# Altium footprint library advsensor.PcbLib: 13 footprints
Each footprint in its own frame and in the unit in brackets; x right, y up, seen from the top. Pads: shape width x height; smd on the part's side, far side on the other; paste and mask are expansions set on the pad; w line width, h text height; cw(c..) or ccw(c..) is an arc to the next point about the centre after c.
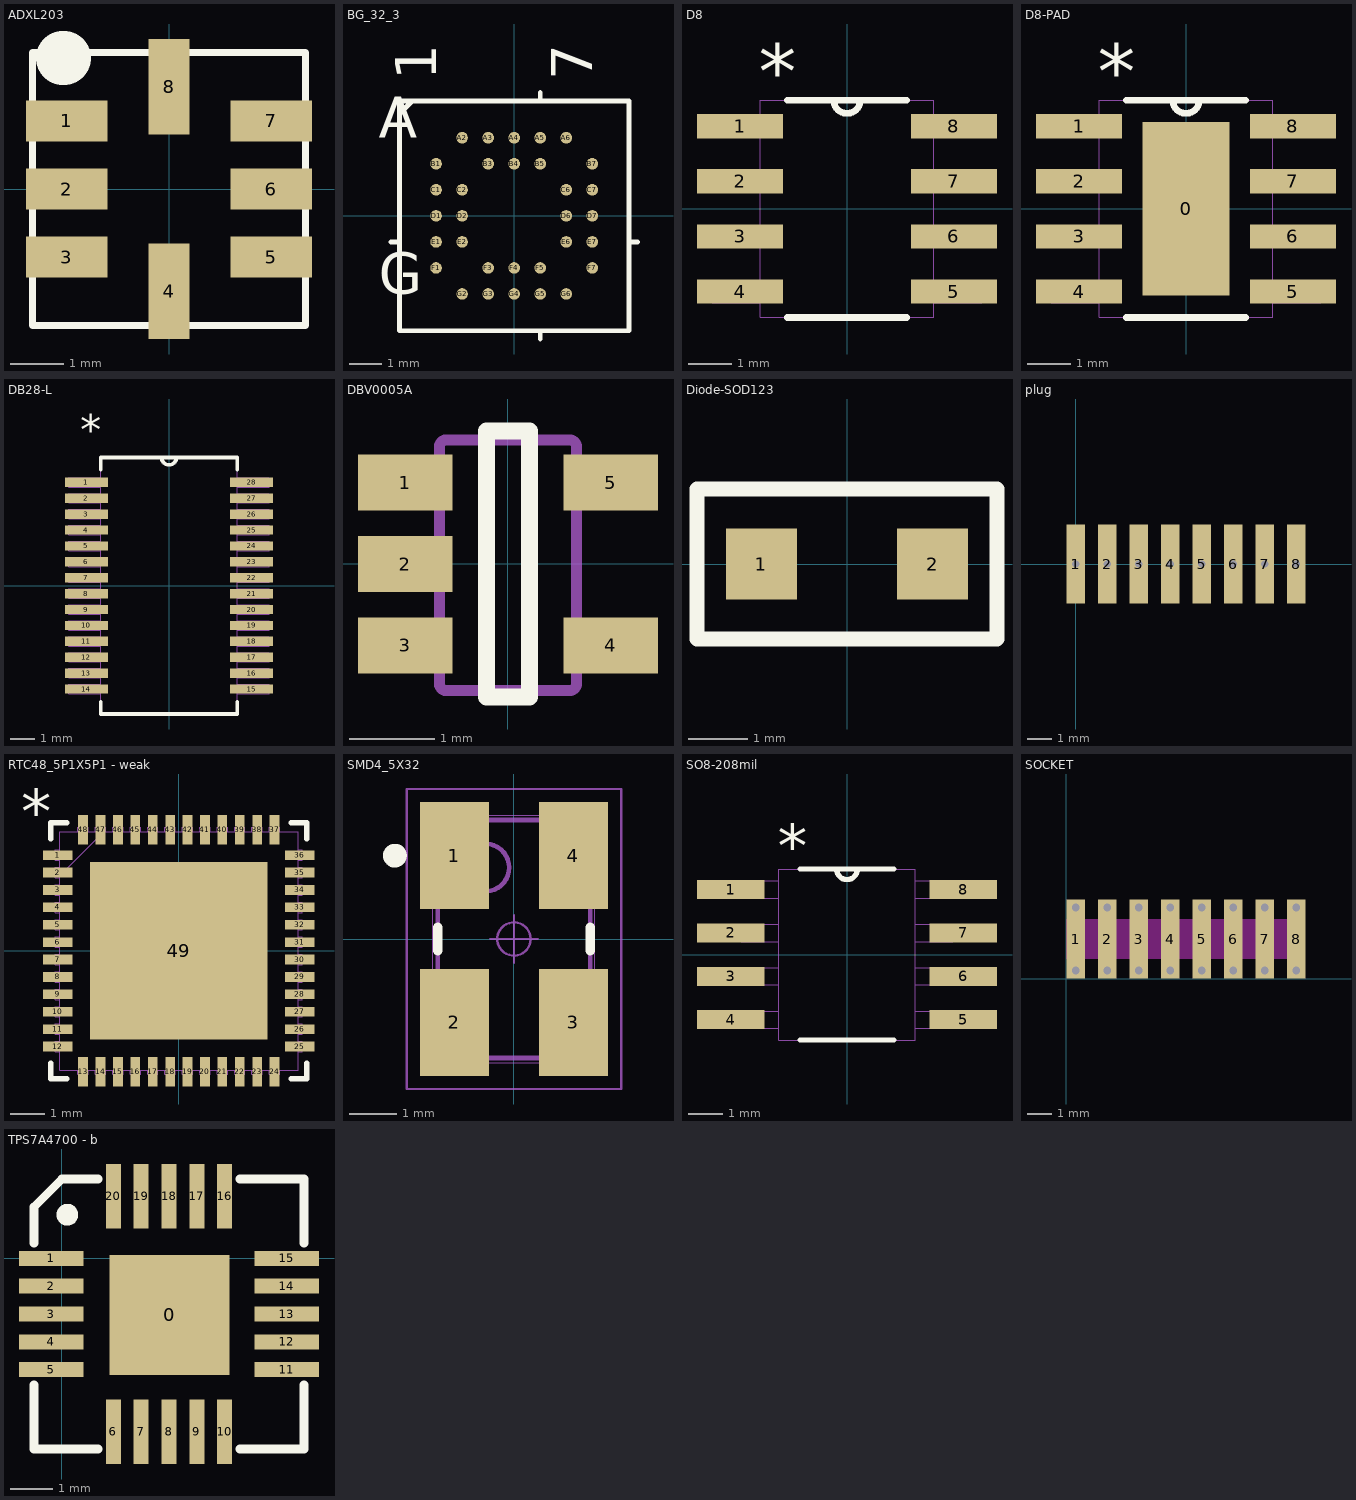
[diagram p0: the footprints below, top view; thin cyan lines are the x and y axes]

## ADXL203 [mil]
pads (8):
  rect 60x30 smd: 1(-75,50) 2(-75,0) 3(-75,-50) 5(75,-50) 6(75,0) 7(75,50)
  rect 30x70 smd: 4(0,-75) 8(0,75)
Top Overlay:
  lines w5: -100,-100 -100,100 100,100 100,-100 -100,-100
  lines w39.37: -78,96 -77,96
3D body: height 80, standoff 0, extent -100,-100 100,100

## BG_32_3 [mil]
pads (32):
  round 14 smd: A2(-62.99,94.49) A3(-31.5,94.49) A4(0,94.49) A5(31.5,94.49) A6(62.99,94.49) B1(-94.49,62.99) B3(-31.5,62.99) B4(0,62.99) B5(31.5,62.99) B7(94.49,62.99) C1(-94.49,31.5) C2(-62.99,31.5) C6(62.99,31.5) C7(94.49,31.5) D1(-94.49,0) D2(-62.99,0) D6(62.99,0) D7(94.49,0) E1(-94.49,-31.5) E2(-62.99,-31.5) E6(62.99,-31.5) E7(94.49,-31.5) F1(-94.49,-62.99) F3(-31.5,-62.99) F4(0,-62.99) F5(31.5,-62.99) F7(94.49,-62.99) G2(-62.99,-94.49) G3(-31.5,-94.49) G4(0,-94.49) G5(31.5,-94.49) G6(62.99,-94.49)
Top Overlay:
  lines w6: -149,-31.5 -139,-31.5 ; -139,123.25 -123.25,139 ; 31.5,-149 31.5,-139 ; 31.5,139 31.5,149 ; 139,-31.5 149,-31.5 ; -139,-139 -139,139 139,139 139,-139 -139,-139
  text "7" at 94.49,164 h50
  text "1" at -94.49,164 h50
  text "G" at -164,-94.49 h50
  text "A" at -164,94.49 h50
Mechanical 1:
  lines w0: -139,123.25 -123.25,139 ; -139,-139 -139,139 139,139 139,-139 -139,-139
  text "7" at 94.49,164 h50
  text "1" at -94.49,164 h50
  text "G" at -164,-94.49 h50
  text "A" at -164,94.49 h50
3D body: height 137.8, standoff 15.75, extent -139,-139 139,139

## D8 [mil]
pads (8):
  rect 78x22 smd: 1(-97,75) 2(-97,25) 3(-97,-25) 4(-97,-75) 5(97,-75) 6(97,-25) 7(97,25) 8(97,75)
Top Overlay:
  lines w6: -54.08,-98.5 54.08,-98.5 ; -54.08,98.5 54.08,98.5 ; -12,98.5 ccw(c0,98.5) 12,98.5
  text "*" at -80,100 h50
Mechanical 1:
  lines w0: -12,98.5 ccw(c0,98.5) 12,98.5 ; -122,-85 -78.5,-85 -78.5,-65 -122,-65 -122,-85 ; -122,-35 -78.5,-35 -78.5,-15 -122,-15 -122,-35 ; -122,15 -78.5,15 -78.5,35 -122,35 -122,15 ; -122,65 -78.5,65 -78.5,85 -122,85 -122,65 ; -78.5,-98.5 -78.5,98.5 78.5,98.5 78.5,-98.5 -78.5,-98.5 ; 78.5,-85 122,-85 122,-65 78.5,-65 78.5,-85 ; 78.5,-35 122,-35 122,-15 78.5,-15 78.5,-35 ; 78.5,15 122,15 122,35 78.5,35 78.5,15 ; 78.5,65 122,65 122,85 78.5,85 78.5,65
3D body: height 63.98, standoff 0, extent -118.12,-96.45 118.1,96.46

## D8-PAD [mil]
pads (9):
  rect 78.74x157.48 smd: 0(0,0)
  rect 78x22 smd: 1(-97,75) 2(-97,25) 3(-97,-25) 4(-97,-75) 5(97,-75) 6(97,-25) 7(97,25) 8(97,75)
Top Overlay:
  lines w6: -54.08,-98.5 54.08,-98.5 ; -54.08,98.5 54.08,98.5 ; -12,98.5 ccw(c0,98.5) 12,98.5
  text "*" at -80,100 h50
Mechanical 1:
  lines w0: -12,98.5 ccw(c0,98.5) 12,98.5 ; -122,-85 -122,-65 -78.5,-65 -78.5,-85 -122,-85 ; -122,-35 -122,-15 -78.5,-15 -78.5,-35 -122,-35 ; -122,15 -122,35 -78.5,35 -78.5,15 -122,15 ; -122,65 -122,85 -78.5,85 -78.5,65 -122,65 ; -78.5,-98.5 78.5,-98.5 78.5,98.5 -78.5,98.5 -78.5,-98.5 ; 78.5,-85 78.5,-65 122,-65 122,-85 78.5,-85 ; 78.5,-35 78.5,-15 122,-15 122,-35 78.5,-35 ; 78.5,15 78.5,35 122,35 122,15 78.5,15 ; 78.5,65 78.5,85 122,85 122,65 78.5,65
3D body: height 63.98, standoff 0, extent -118.12,-96.45 118.1,96.46

## DB28-L [mil]
pads (28):
  rect 69x15 smd: 1(-133,166.34) 2(-133,140.75) 3(-133,115.16) 4(-133,89.57) 5(-133,63.98) 6(-133,38.39) 7(-133,12.8) 8(-133,-12.8) 9(-133,-38.39) 10(-133,-63.98) 11(-133,-89.57) 12(-133,-115.16) 13(-133,-140.75) 14(-133,-166.34) 15(133,-166.34) 16(133,-140.75) 17(133,-115.16) 18(133,-89.57) 19(133,-63.98) 20(133,-38.39) 21(133,-12.8) 22(133,12.8) 23(133,38.39) 24(133,63.98) 25(133,89.57) 26(133,115.16) 27(133,140.75) 28(133,166.34)
Top Overlay:
  lines w6: -110,-186.94 -110,-206.5 110,-206.5 110,-186.94 ; -110,186.94 -110,206.5 110,206.5 110,186.94 ; -12,206.5 ccw(c0,206.5) 12,206.5
  text "*" at -143,226.34 h50
Mechanical 1:
  lines w0: -12,206.5 ccw(c0,206.5) 12,206.5 ; -161.5,-173.84 -110,-173.84 -110,-158.84 -161.5,-158.84 -161.5,-173.84 ; -161.5,-148.25 -110,-148.25 -110,-133.25 -161.5,-133.25 -161.5,-148.25 ; -161.5,-122.66 -110,-122.66 -110,-107.66 -161.5,-107.66 -161.5,-122.66 ; -161.5,-97.07 -110,-97.07 -110,-82.07 -161.5,-82.07 -161.5,-97.07 ; -161.5,-71.48 -110,-71.48 -110,-56.48 -161.5,-56.48 -161.5,-71.48 ; -161.5,-45.89 -110,-45.89 -110,-30.89 -161.5,-30.89 -161.5,-45.89 ; -161.5,-20.3 -110,-20.3 -110,-5.3 -161.5,-5.3 -161.5,-20.3 ; -161.5,5.3 -110,5.3 -110,20.3 -161.5,20.3 -161.5,5.3 ; -161.5,30.89 -110,30.89 -110,45.89 -161.5,45.89 -161.5,30.89 ; -161.5,56.48 -110,56.48 -110,71.48 -161.5,71.48 -161.5,56.48 ; -161.5,82.07 -110,82.07 -110,97.07 -161.5,97.07 -161.5,82.07 ; -161.5,107.66 -110,107.66 -110,122.66 -161.5,122.66 -161.5,107.66 ; -161.5,133.25 -110,133.25 -110,148.25 -161.5,148.25 -161.5,133.25 ; -161.5,158.84 -110,158.84 -110,173.84 -161.5,173.84 -161.5,158.84 ; -110,-206.5 -110,206.5 110,206.5 110,-206.5 -110,-206.5 ; 110,-173.84 161.5,-173.84 161.5,-158.84 110,-158.84 110,-173.84 ; 110,-148.25 161.5,-148.25 161.5,-133.25 110,-133.25 110,-148.25 ; 110,-122.66 161.5,-122.66 161.5,-107.66 110,-107.66 110,-122.66 ; 110,-97.07 161.5,-97.07 161.5,-82.07 110,-82.07 110,-97.07 ; 110,-71.48 161.5,-71.48 161.5,-56.48 110,-56.48 110,-71.48 ; 110,-45.89 161.5,-45.89 161.5,-30.89 110,-30.89 110,-45.89 ; 110,-20.3 161.5,-20.3 161.5,-5.3 110,-5.3 110,-20.3 ; 110,5.3 161.5,5.3 161.5,20.3 110,20.3 110,5.3 ; 110,30.89 161.5,30.89 161.5,45.89 110,45.89 110,30.89 ; 110,56.48 161.5,56.48 161.5,71.48 110,71.48 110,56.48 ; 110,82.07 161.5,82.07 161.5,97.07 110,97.07 110,82.07 ; 110,107.66 161.5,107.66 161.5,122.66 110,122.66 110,107.66 ; 110,133.25 161.5,133.25 161.5,148.25 110,148.25 110,133.25 ; 110,158.84 161.5,158.84 161.5,173.84 110,173.84 110,158.84
  text "*" at -143,226.34 h50

## DBV0005A [mm]
pads (5):
  rect 1.1x0.65 smd paste-0.102 mask+0.051: 1(-1.2,0.95) 2(-1.2,0) 3(-1.2,-0.95) 4(1.2,-0.95) 5(1.2,0.95)
Top Overlay:
  lines w0.2: -0.25,-1.55 -0.25,1.55 0.25,1.55 0.25,-1.55 -0.25,-1.55
Mechanical 1:
  lines w0.127: -0.801,1.371 cw(c-0.725,1.37) -0.725,1.446 ; -0.801,1.37 -0.801,1.371 ; -0.801,1.37 -0.801,-1.399 -0.801,-1.4 ccw(c-0.725,-1.399) -0.725,-1.475 ; -0.725,-1.475 0.723,-1.475 0.724,-1.475 ccw(c0.723,-1.399) 0.799,-1.4 0.799,-1.399 0.799,1.37 ; -0.725,-1.475 -0.725,-1.475 ; -0.725,1.446 -0.725,1.446 ; -0.725,1.446 0.723,1.446 0.724,1.446 cw(c0.723,1.37) 0.799,1.371 ; 0.799,1.37 0.799,1.371 ; -1.423,-1.167 -1.423,-0.767 -1.199,-0.767 -1.105,-0.767 -1.088,-0.767 -0.835,-0.767 -0.801,-0.767 -0.801,-1.167 -0.835,-1.167 -1.088,-1.167 -1.105,-1.167 -1.199,-1.167 -1.423,-1.167 ; -1.423,-0.215 -1.423,0.186 -1.199,0.186 -1.105,0.186 -1.088,0.186 -0.835,0.186 -0.801,0.186 -0.801,-0.215 -0.835,-0.215 -1.088,-0.215 -1.105,-0.215 -1.199,-0.215 -1.423,-0.215 ; -1.423,0.738 -1.423,1.138 -1.199,1.138 -1.105,1.138 -1.088,1.138 -0.835,1.138 -0.801,1.138 -0.801,0.738 -0.835,0.738 -1.088,0.738 -1.105,0.738 -1.199,0.738 -1.423,0.738 ; 0.799,-1.167 0.834,-1.167 1.087,-1.167 1.103,-1.167 1.198,-1.167 1.422,-1.167 1.422,-0.767 1.198,-0.767 1.103,-0.767 1.087,-0.767 0.834,-0.767 0.799,-0.767 0.799,-1.167 ; 0.799,0.738 0.834,0.738 1.087,0.738 1.103,0.738 1.198,0.738 1.422,0.738 1.422,1.138 1.198,1.138 1.103,1.138 1.087,1.138 0.834,1.138 0.799,1.138 0.799,0.738

## Diode-SOD123 [mm]
pads (2):
  rect 1.2x1.2 smd: 1(-1.45,0) 2(1.45,0)
Top Overlay:
  lines w0.254: -2.54,-1.27 2.54,-1.27 2.54,1.27 -2.54,1.27 -2.54,-1.27

## plug [mm]
pads (9):
  rect 0.75x3.2 hole 0.3: 1(0,0) 1(0,0) 2(1.27,0) 3(2.54,0) 4(3.81,0) 5(5.08,0) 6(6.35,0) 7(7.62,0) 8(8.89,0)

## RTC48_5P1X5P1 - weak [mm]
pads (49):
  rect 0.85x0.28 smd paste-0.14: 1(-3.475,2.75) 2(-3.475,2.25) 3(-3.475,1.75) 4(-3.475,1.25) 5(-3.475,0.75) 6(-3.475,0.25) 7(-3.475,-0.25) 8(-3.475,-0.75) 9(-3.475,-1.25) 10(-3.475,-1.75) 11(-3.475,-2.25) 12(-3.475,-2.75) 25(3.475,-2.75) 26(3.475,-2.25) 27(3.475,-1.75) 28(3.475,-1.25) 29(3.475,-0.75) 30(3.475,-0.25) 31(3.475,0.25) 32(3.475,0.75) 33(3.475,1.25) 34(3.475,1.75) 35(3.475,2.25) 36(3.475,2.75)
  rect 0.28x0.85 smd paste-0.14: 13(-2.751,-3.475) 14(-2.251,-3.475) 15(-1.75,-3.475) 16(-1.25,-3.475) 17(-0.75,-3.475) 18(-0.25,-3.475) 19(0.25,-3.475) 20(0.75,-3.475) 21(1.25,-3.475) 22(1.75,-3.475) 23(2.251,-3.475) 24(2.751,-3.475) 37(2.751,3.475) 38(2.251,3.475) 39(1.75,3.475) 40(1.25,3.475) 41(0.75,3.475) 42(0.25,3.475) 43(-0.25,3.475) 44(-0.75,3.475) 45(-1.25,3.475) 46(-1.75,3.475) 47(-2.251,3.475) 48(-2.751,3.475)
  rect 5.1x5.1 smd paste-2.537 mask-2.54: 49(0,0)
Top Overlay:
  lines w0.152: -3.679,-3.223 -3.679,-3.679 -3.223,-3.679 ; -3.679,3.223 -3.679,3.679 -3.223,3.679 ; 3.223,-3.679 3.679,-3.679 3.679,-3.223 ; 3.223,3.679 3.679,3.679 3.679,3.223
  text "*" at -4.535,3.381 h1.27
Top Paste:
  drawing of 48 lines, arcs and shapes, not listed
Top Solder:
  drawing of 62 lines, arcs and shapes, not listed
Mechanical 1:
  drawing of 197 lines, arcs and shapes, not listed
  text "*" at -4.535,3.381 h1.27

## SMD4_5X32 [mm]
pads (4):
  rect 1.45x2.25 smd: 1(-1.25,1.75) 2(-1.25,-1.75) 3(1.25,-1.75) 4(1.25,1.75)
Top Overlay:
  circle w0.25: c-2.5,1.75 r0.125
  lines w0.2: -1.6,-0.25 -1.6,0.25 ; 1.6,-0.25 1.6,0.25
Mechanical 15:
  circle w0.1: c-0.6,1.5 r0.5
  lines w0.1: -1.6,-2.5 1.6,-2.5 1.6,2.5 -1.6,2.5 -1.6,-2.5
Mechanical 16:
  circle w0.05: c0,0 r0.35
  lines w0.001: -1.7,-2.6 1.7,-2.6 1.7,2.6 -1.7,2.6 -1.7,-2.6
  lines w0.05: -0.5,0 0.5,0 ; 0,-0.5 0,0.5 ; -2.25,-3.15 2.25,-3.15 2.25,3.15 -2.25,3.15 -2.25,-3.15

## SO8-208mil [mil]
pads (8):
  rect 78x22 smd: 1(-133.86,75) 2(-133.86,25) 3(-133.86,-25) 4(-133.86,-75) 5(133.86,-75) 6(133.86,-25) 7(133.86,25) 8(133.86,75)
Top Overlay:
  lines w6: -54.08,-98.5 54.08,-98.5 ; -54.08,98.5 54.08,98.5 ; -12,98.5 ccw(c0,98.5) 12,98.5
  text "*" at -80,100 h50
Mechanical 1:
  lines w0: -12,98.5 ccw(c0,98.5) 12,98.5 ; -122,-85 -122,-65 -78.5,-65 -78.5,-85 -122,-85 ; -122,-35 -122,-15 -78.5,-15 -78.5,-35 -122,-35 ; -122,15 -122,35 -78.5,35 -78.5,15 -122,15 ; -122,65 -122,85 -78.5,85 -78.5,65 -122,65 ; -78.5,-98.5 78.5,-98.5 78.5,98.5 -78.5,98.5 -78.5,-98.5 ; 78.5,-85 78.5,-65 122,-65 122,-85 78.5,-85 ; 78.5,-35 78.5,-15 122,-15 122,-35 78.5,-35 ; 78.5,15 78.5,35 122,35 122,15 78.5,15 ; 78.5,65 78.5,85 122,85 122,65 78.5,65
3D body: height 63.98, standoff 0, extent -118.12,-96.45 118.1,96.46

## SOCKET [mm]
pads (8):
  rect 0.75x3.2 all layers, no hole: 1(0.381,1.6) 2(1.651,1.6) 3(2.921,1.6) 4(4.191,1.6) 5(5.461,1.6) 6(6.731,1.6) 7(8.001,1.6) 8(9.271,1.6)
via 0.381,0.33 diameter 0.508 hole 0.305
via 0.381,2.87 diameter 0.508 hole 0.305
via 1.651,2.87 diameter 0.508 hole 0.305
via 1.651,0.33 diameter 0.508 hole 0.305
via 2.921,2.87 diameter 0.508 hole 0.305
via 2.921,0.33 diameter 0.508 hole 0.305
via 4.191,2.87 diameter 0.508 hole 0.305
via 4.191,0.33 diameter 0.508 hole 0.305
via 5.461,2.87 diameter 0.508 hole 0.305
via 5.461,0.33 diameter 0.508 hole 0.305
via 6.731,2.87 diameter 0.508 hole 0.305
via 6.731,0.33 diameter 0.508 hole 0.305
via 8.001,2.87 diameter 0.508 hole 0.305
via 8.001,0.33 diameter 0.508 hole 0.305
via 9.271,2.87 diameter 0.508 hole 0.305
via 9.271,0.33 diameter 0.508 hole 0.305
Keep-Out Layer:
  rectangle: 0,0.8 9.6,2.4

## TPS7A4700 - b [mm]
pads (21):
  rect 2.8x2.8 smd: 0(2.515,-1.321)
  rect 1.5x0.35 smd: 1(-0.25,0) 2(-0.25,-0.65) 3(-0.25,-1.3) 4(-0.25,-1.95) 5(-0.25,-2.6) 11(5.25,-2.6) 12(5.25,-1.95) 13(5.25,-1.3) 14(5.25,-0.65) 15(5.25,0)
  rect 0.35x1.5 smd: 6(1.2,-4.05) 7(1.85,-4.05) 8(2.5,-4.05) 9(3.15,-4.05) 10(3.8,-4.05) 16(3.8,1.45) 17(3.15,1.45) 18(2.5,1.45) 19(1.85,1.45) 20(1.2,1.45)
Top Overlay:
  circle w0.254: c0.127,1.016 r0.127
  lines w0.2: -0.65,-2.95 -0.65,-4.45 0.85,-4.45 ; -0.65,0.35 -0.65,1.2 0,1.85 0.85,1.85 ; 4.15,-4.45 5.65,-4.45 5.65,-2.95 ; 4.15,1.85 5.65,1.85 5.65,0.35